# Altium integrated library Linear Technology Power Management Switching Regulator LT1074-LT8705.IntLib: 2252 symbols (part 52 of 148)
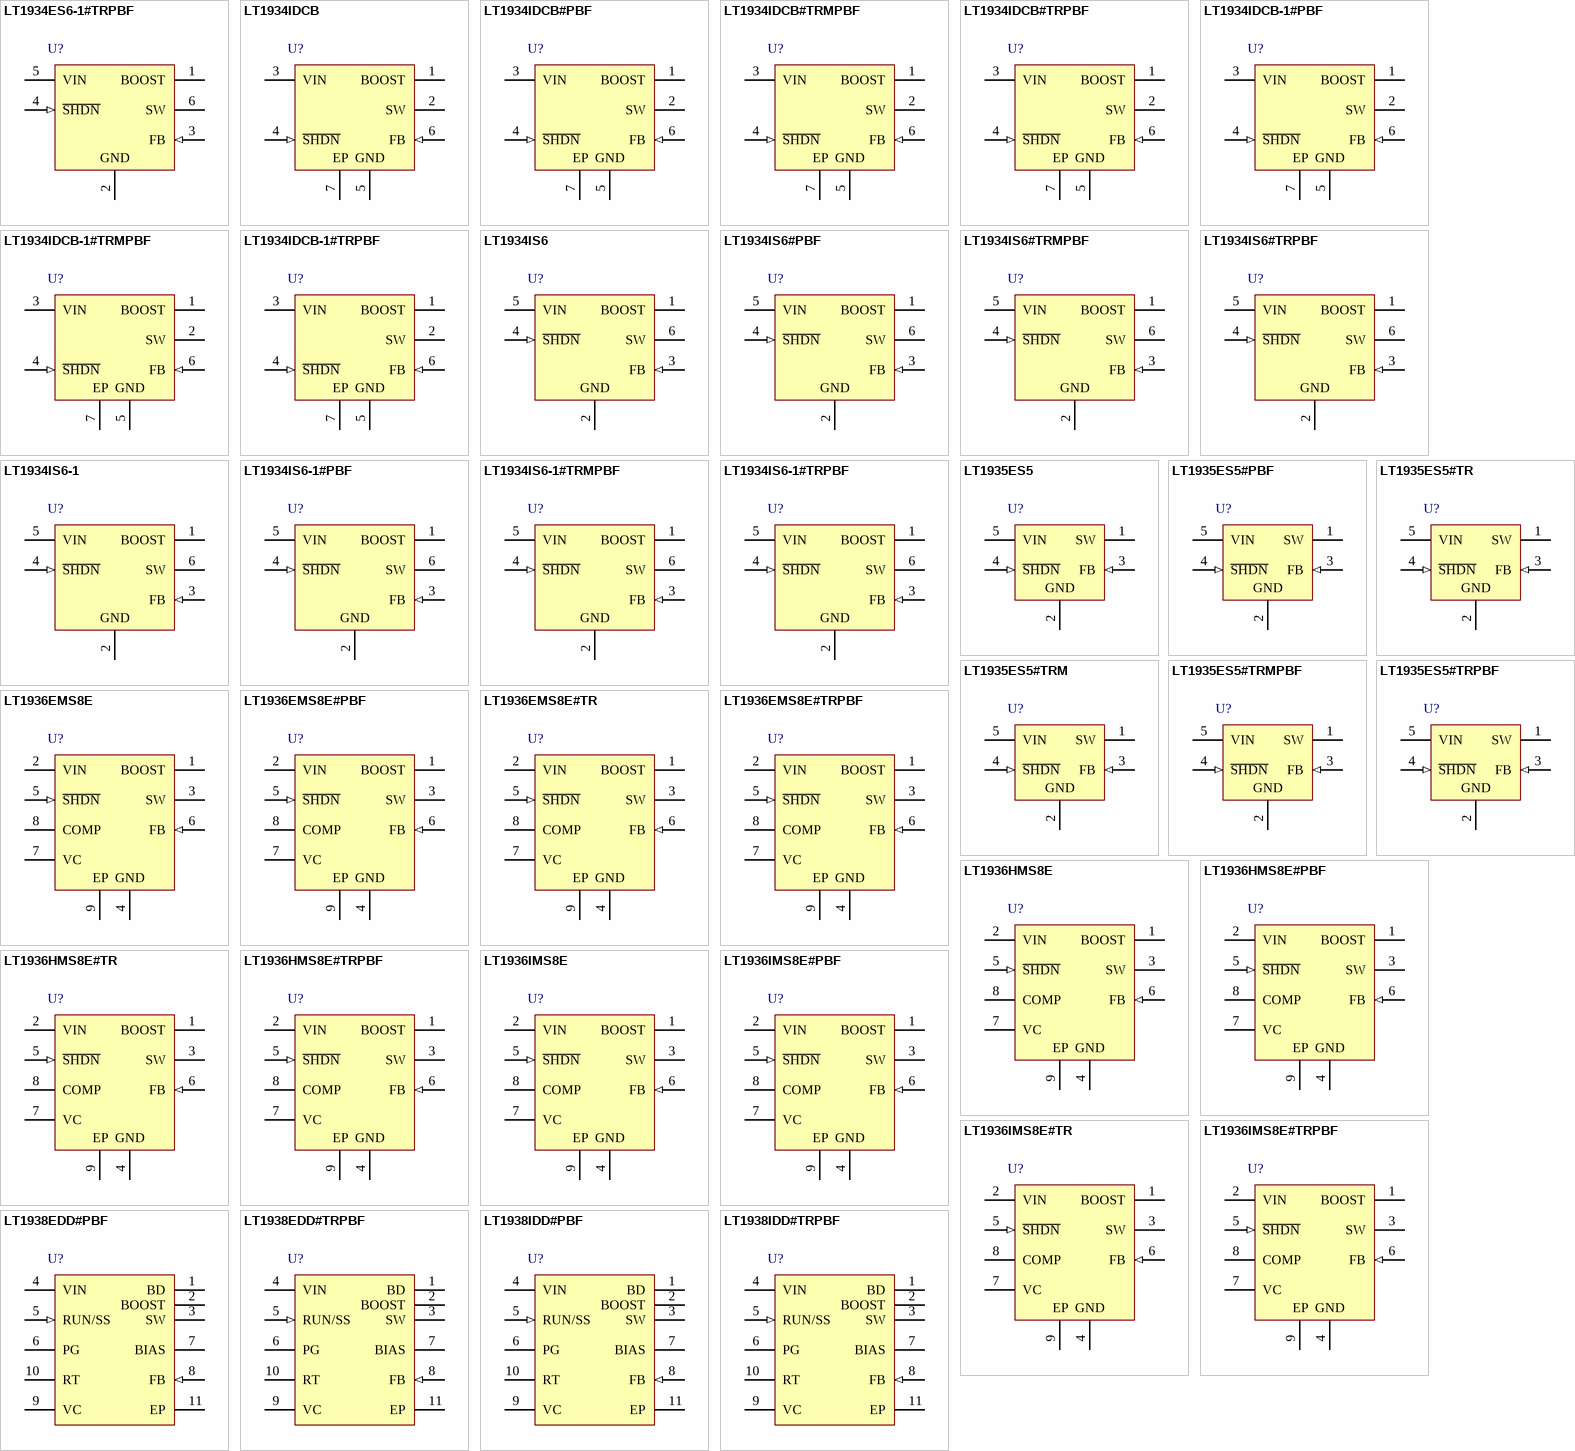
[diagram p122: symbols LT1934ES6-1#TRPBF to LT1938IDD#TRPBF]

## LT1936HMS8E#PBF
designator U?
1.4 A, 500 kHz Step-Down Switching Regulator, 8-pin SOP (MS8E-8), -40 to 150 degC, Pb-Free; Manufacturer: Linear Technology; PartNumber: LT1936HMS8E#PBF; Number of Outputs: 1; DatasheetVersion: Rev. D; PackageVersion: Rev. E; PackageReference: MS8E-8; PackageDescription: 8-Pin Plastic MSOP, Exposed Die Pad, Body 3 x 3 mm, Pitch 0.65 mm; Supplier 1: Digi-Key; Supplier Part Number 1: LT1936HMS8E#PBF-ND; RoHS: TRUE; Mounting Technology: Surface Mount; ComponentLink1Description: Manufacturer URL; ComponentLink1URL: http://www.linear.com/; ComponentLink2Description: Datasheet; ComponentLink2URL: http://cds.linear.com/docs/en/datasheet/1936fd.pdf; ComponentLink3Description: Package Specification; ComponentLink3URL: http://cds.linear.com/docs/en/datasheet/4070fc.pdf
footprint LT-MS8E-8-2060X1830TP_N (SOP, 8-Leads, Body 3.1x3.1mm, Pitch 0.65mm, Thermal Pad 2.162x1.932mm, IPC Medium Density)
footprint LT-MS8E-8-2060X1830TP_L (SOP, 8-Leads, Body 3.1x3.1mm, Pitch 0.65mm, Thermal Pad 2.162x1.932mm, IPC High Density)
footprint LT-MS8E-8-2060X1830TP_M (SOP, 8-Leads, Body 3.1x3.1mm, Pitch 0.65mm, Thermal Pad 2.162x1.932mm, IPC Low Density)
pins: 1 BOOST "The BOOST pin is used to provide a drive voltage, higher than the input voltage, to the internal bipolar NPN power switch.", 2 VIN (power) "The VIN pin supplies current to the LT1936’s internal regulator and to the internal power switch. This pin must be locally bypassed.", 3 SW (power) "The SW pin is the output of the internal power switch. Connect this pin to the inductor, catch diode and boost capacitor.", 4 GND (power) "Tie the GND pin to a local ground plane below the LT1936 and the circuit components. Return the feedback divider to this pin.", 5 ~{SHDN} (in) "The S\H\D\N\ pin is used to put the LT1936 in shutdown mode. Tie to ground to shut down the LT1936. Tie to 2.3V or more for normal operation. If the shutdown feature is not used, tie this pin to the VIN pin. S\H\D\N\ also (See Datasheet)", 6 FB (in) "The LT1936 regulates its feedback pin to 1.200V. Connect the feedback resistor divider tap to this pin. Set the output voltage according to VOUT = 1.200V (1 + R1/R2). A good value for R2 is 10k.", 7 VC "The VC pin is used to compensate the LT1936 control loop by tying an external RC network from this pin to ground. The COMP pin provides access to an internal RC network that can be used instead of the external components.", 8 COMP "To use the internal compensation network, tie the COMP pin to the VC pin. Otherwise, tie COMP to ground or leave it floating.", 9 EP (power) "The Exposed Pad must be soldered to the PCB and electrically connected to ground. Use a large ground plane and thermal vias to optimize thermal performance."

## LT1936HMS8E#TR
designator U?
1.4 A, 500 kHz Step-Down Switching Regulator, 8-pin SOP (MS8E-8), -40 to 150 degC, Tape and Reel; Manufacturer: Linear Technology; PartNumber: LT1936HMS8E#TR; Number of Outputs: 1; DatasheetVersion: Rev. D; PackageVersion: Rev. E; PackageReference: MS8E-8; PackageDescription: 8-Pin Plastic MSOP, Exposed Die Pad, Body 3 x 3 mm, Pitch 0.65 mm; Packing: Tape and Reel; RoHS: FALSE; Mounting Technology: Surface Mount; ComponentLink1Description: Manufacturer URL; ComponentLink1URL: http://www.linear.com/; ComponentLink2Description: Datasheet; ComponentLink2URL: http://cds.linear.com/docs/en/datasheet/1936fd.pdf; ComponentLink3Description: Package Specification; ComponentLink3URL: http://cds.linear.com/docs/en/datasheet/4070fc.pdf
footprint LT-MS8E-8-2060X1830TP_N (SOP, 8-Leads, Body 3.1x3.1mm, Pitch 0.65mm, Thermal Pad 2.162x1.932mm, IPC Medium Density)
footprint LT-MS8E-8-2060X1830TP_L (SOP, 8-Leads, Body 3.1x3.1mm, Pitch 0.65mm, Thermal Pad 2.162x1.932mm, IPC High Density)
footprint LT-MS8E-8-2060X1830TP_M (SOP, 8-Leads, Body 3.1x3.1mm, Pitch 0.65mm, Thermal Pad 2.162x1.932mm, IPC Low Density)
pins: 1 BOOST "The BOOST pin is used to provide a drive voltage, higher than the input voltage, to the internal bipolar NPN power switch.", 2 VIN (power) "The VIN pin supplies current to the LT1936’s internal regulator and to the internal power switch. This pin must be locally bypassed.", 3 SW (power) "The SW pin is the output of the internal power switch. Connect this pin to the inductor, catch diode and boost capacitor.", 4 GND (power) "Tie the GND pin to a local ground plane below the LT1936 and the circuit components. Return the feedback divider to this pin.", 5 ~{SHDN} (in) "The S\H\D\N\ pin is used to put the LT1936 in shutdown mode. Tie to ground to shut down the LT1936. Tie to 2.3V or more for normal operation. If the shutdown feature is not used, tie this pin to the VIN pin. S\H\D\N\ also (See Datasheet)", 6 FB (in) "The LT1936 regulates its feedback pin to 1.200V. Connect the feedback resistor divider tap to this pin. Set the output voltage according to VOUT = 1.200V (1 + R1/R2). A good value for R2 is 10k.", 7 VC "The VC pin is used to compensate the LT1936 control loop by tying an external RC network from this pin to ground. The COMP pin provides access to an internal RC network that can be used instead of the external components.", 8 COMP "To use the internal compensation network, tie the COMP pin to the VC pin. Otherwise, tie COMP to ground or leave it floating.", 9 EP (power) "The Exposed Pad must be soldered to the PCB and electrically connected to ground. Use a large ground plane and thermal vias to optimize thermal performance."

## LT1936HMS8E#TRPBF
designator U?
1.4 A, 500 kHz Step-Down Switching Regulator, 8-pin SOP (MS8E-8), -40 to 150 degC, Pb-Free, Tape and Reel; Manufacturer: Linear Technology; PartNumber: LT1936HMS8E#TRPBF; Number of Outputs: 1; DatasheetVersion: Rev. D; PackageVersion: Rev. E; PackageReference: MS8E-8; PackageDescription: 8-Pin Plastic MSOP, Exposed Die Pad, Body 3 x 3 mm, Pitch 0.65 mm; Supplier 1: Digi-Key; Supplier Part Number 1: LT1936HMS8E#TRPBF-ND; Packing: Tape and Reel; RoHS: TRUE; Mounting Technology: Surface Mount; ComponentLink1Description: Manufacturer URL; ComponentLink1URL: http://www.linear.com/; ComponentLink2Description: Datasheet; ComponentLink2URL: http://cds.linear.com/docs/en/datasheet/1936fd.pdf; ComponentLink3Description: Package Specification; ComponentLink3URL: http://cds.linear.com/docs/en/datasheet/4070fc.pdf
footprint LT-MS8E-8-2060X1830TP_N (SOP, 8-Leads, Body 3.1x3.1mm, Pitch 0.65mm, Thermal Pad 2.162x1.932mm, IPC Medium Density)
footprint LT-MS8E-8-2060X1830TP_L (SOP, 8-Leads, Body 3.1x3.1mm, Pitch 0.65mm, Thermal Pad 2.162x1.932mm, IPC High Density)
footprint LT-MS8E-8-2060X1830TP_M (SOP, 8-Leads, Body 3.1x3.1mm, Pitch 0.65mm, Thermal Pad 2.162x1.932mm, IPC Low Density)
pins: 1 BOOST "The BOOST pin is used to provide a drive voltage, higher than the input voltage, to the internal bipolar NPN power switch.", 2 VIN (power) "The VIN pin supplies current to the LT1936’s internal regulator and to the internal power switch. This pin must be locally bypassed.", 3 SW (power) "The SW pin is the output of the internal power switch. Connect this pin to the inductor, catch diode and boost capacitor.", 4 GND (power) "Tie the GND pin to a local ground plane below the LT1936 and the circuit components. Return the feedback divider to this pin.", 5 ~{SHDN} (in) "The S\H\D\N\ pin is used to put the LT1936 in shutdown mode. Tie to ground to shut down the LT1936. Tie to 2.3V or more for normal operation. If the shutdown feature is not used, tie this pin to the VIN pin. S\H\D\N\ also (See Datasheet)", 6 FB (in) "The LT1936 regulates its feedback pin to 1.200V. Connect the feedback resistor divider tap to this pin. Set the output voltage according to VOUT = 1.200V (1 + R1/R2). A good value for R2 is 10k.", 7 VC "The VC pin is used to compensate the LT1936 control loop by tying an external RC network from this pin to ground. The COMP pin provides access to an internal RC network that can be used instead of the external components.", 8 COMP "To use the internal compensation network, tie the COMP pin to the VC pin. Otherwise, tie COMP to ground or leave it floating.", 9 EP (power) "The Exposed Pad must be soldered to the PCB and electrically connected to ground. Use a large ground plane and thermal vias to optimize thermal performance."

## LT1936IMS8E
designator U?
1.4 A, 500 kHz Step-Down Switching Regulator, 8-pin SOP (MS8E-8), -40 to 125 degC; Manufacturer: Linear Technology; PartNumber: LT1936IMS8E; Number of Outputs: 1; DatasheetVersion: Rev. D; PackageVersion: Rev. E; PackageReference: MS8E-8; PackageDescription: 8-Pin Plastic MSOP, Exposed Die Pad, Body 3 x 3 mm, Pitch 0.65 mm; Supplier 1: Newark; Supplier Part Number 1: 57M7229; RoHS: FALSE; Mounting Technology: Surface Mount; ComponentLink1Description: Manufacturer URL; ComponentLink1URL: http://www.linear.com/; ComponentLink2Description: Datasheet; ComponentLink2URL: http://cds.linear.com/docs/en/datasheet/1936fd.pdf; ComponentLink3Description: Package Specification; ComponentLink3URL: http://cds.linear.com/docs/en/datasheet/4070fc.pdf
footprint LT-MS8E-8-2060X1830TP_N (SOP, 8-Leads, Body 3.1x3.1mm, Pitch 0.65mm, Thermal Pad 2.162x1.932mm, IPC Medium Density)
footprint LT-MS8E-8-2060X1830TP_L (SOP, 8-Leads, Body 3.1x3.1mm, Pitch 0.65mm, Thermal Pad 2.162x1.932mm, IPC High Density)
footprint LT-MS8E-8-2060X1830TP_M (SOP, 8-Leads, Body 3.1x3.1mm, Pitch 0.65mm, Thermal Pad 2.162x1.932mm, IPC Low Density)
pins: 1 BOOST "The BOOST pin is used to provide a drive voltage, higher than the input voltage, to the internal bipolar NPN power switch.", 2 VIN (power) "The VIN pin supplies current to the LT1936’s internal regulator and to the internal power switch. This pin must be locally bypassed.", 3 SW (power) "The SW pin is the output of the internal power switch. Connect this pin to the inductor, catch diode and boost capacitor.", 4 GND (power) "Tie the GND pin to a local ground plane below the LT1936 and the circuit components. Return the feedback divider to this pin.", 5 ~{SHDN} (in) "The S\H\D\N\ pin is used to put the LT1936 in shutdown mode. Tie to ground to shut down the LT1936. Tie to 2.3V or more for normal operation. If the shutdown feature is not used, tie this pin to the VIN pin. S\H\D\N\ also (See Datasheet)", 6 FB (in) "The LT1936 regulates its feedback pin to 1.200V. Connect the feedback resistor divider tap to this pin. Set the output voltage according to VOUT = 1.200V (1 + R1/R2). A good value for R2 is 10k.", 7 VC "The VC pin is used to compensate the LT1936 control loop by tying an external RC network from this pin to ground. The COMP pin provides access to an internal RC network that can be used instead of the external components.", 8 COMP "To use the internal compensation network, tie the COMP pin to the VC pin. Otherwise, tie COMP to ground or leave it floating.", 9 EP (power) "The Exposed Pad must be soldered to the PCB and electrically connected to ground. Use a large ground plane and thermal vias to optimize thermal performance."

## LT1936IMS8E#PBF
designator U?
1.4 A, 500 kHz Step-Down Switching Regulator, 8-pin SOP (MS8E-8), -40 to 125 degC, Pb-Free; Manufacturer: Linear Technology; PartNumber: LT1936IMS8E#PBF; Number of Outputs: 1; DatasheetVersion: Rev. D; PackageVersion: Rev. E; PackageReference: MS8E-8; PackageDescription: 8-Pin Plastic MSOP, Exposed Die Pad, Body 3 x 3 mm, Pitch 0.65 mm; Supplier 1: Digi-Key; Supplier Part Number 1: LT1936IMS8E#PBF-ND; Supplier 2: Farnell; Supplier Part Number 2: 2254833; Supplier 3: Newark; Supplier Part Number 3: 57M7230; RoHS: TRUE; Mounting Technology: Surface Mount; ComponentLink1Description: Manufacturer URL; ComponentLink1URL: http://www.linear.com/; ComponentLink2Description: Datasheet; ComponentLink2URL: http://cds.linear.com/docs/en/datasheet/1936fd.pdf; ComponentLink3Description: Package Specification; ComponentLink3URL: http://cds.linear.com/docs/en/datasheet/4070fc.pdf
footprint LT-MS8E-8-2060X1830TP_N (SOP, 8-Leads, Body 3.1x3.1mm, Pitch 0.65mm, Thermal Pad 2.162x1.932mm, IPC Medium Density)
footprint LT-MS8E-8-2060X1830TP_L (SOP, 8-Leads, Body 3.1x3.1mm, Pitch 0.65mm, Thermal Pad 2.162x1.932mm, IPC High Density)
footprint LT-MS8E-8-2060X1830TP_M (SOP, 8-Leads, Body 3.1x3.1mm, Pitch 0.65mm, Thermal Pad 2.162x1.932mm, IPC Low Density)
pins: 1 BOOST "The BOOST pin is used to provide a drive voltage, higher than the input voltage, to the internal bipolar NPN power switch.", 2 VIN (power) "The VIN pin supplies current to the LT1936’s internal regulator and to the internal power switch. This pin must be locally bypassed.", 3 SW (power) "The SW pin is the output of the internal power switch. Connect this pin to the inductor, catch diode and boost capacitor.", 4 GND (power) "Tie the GND pin to a local ground plane below the LT1936 and the circuit components. Return the feedback divider to this pin.", 5 ~{SHDN} (in) "The S\H\D\N\ pin is used to put the LT1936 in shutdown mode. Tie to ground to shut down the LT1936. Tie to 2.3V or more for normal operation. If the shutdown feature is not used, tie this pin to the VIN pin. S\H\D\N\ also (See Datasheet)", 6 FB (in) "The LT1936 regulates its feedback pin to 1.200V. Connect the feedback resistor divider tap to this pin. Set the output voltage according to VOUT = 1.200V (1 + R1/R2). A good value for R2 is 10k.", 7 VC "The VC pin is used to compensate the LT1936 control loop by tying an external RC network from this pin to ground. The COMP pin provides access to an internal RC network that can be used instead of the external components.", 8 COMP "To use the internal compensation network, tie the COMP pin to the VC pin. Otherwise, tie COMP to ground or leave it floating.", 9 EP (power) "The Exposed Pad must be soldered to the PCB and electrically connected to ground. Use a large ground plane and thermal vias to optimize thermal performance."

## LT1936IMS8E#TR
designator U?
1.4 A, 500 kHz Step-Down Switching Regulator, 8-pin SOP (MS8E-8), -40 to 125 degC, Tape and Reel; Manufacturer: Linear Technology; PartNumber: LT1936IMS8E#TR; Number of Outputs: 1; DatasheetVersion: Rev. D; PackageVersion: Rev. E; PackageReference: MS8E-8; PackageDescription: 8-Pin Plastic MSOP, Exposed Die Pad, Body 3 x 3 mm, Pitch 0.65 mm; Packing: Tape and Reel; RoHS: FALSE; Mounting Technology: Surface Mount; ComponentLink1Description: Manufacturer URL; ComponentLink1URL: http://www.linear.com/; ComponentLink2Description: Datasheet; ComponentLink2URL: http://cds.linear.com/docs/en/datasheet/1936fd.pdf; ComponentLink3Description: Package Specification; ComponentLink3URL: http://cds.linear.com/docs/en/datasheet/4070fc.pdf
footprint LT-MS8E-8-2060X1830TP_N (SOP, 8-Leads, Body 3.1x3.1mm, Pitch 0.65mm, Thermal Pad 2.162x1.932mm, IPC Medium Density)
footprint LT-MS8E-8-2060X1830TP_L (SOP, 8-Leads, Body 3.1x3.1mm, Pitch 0.65mm, Thermal Pad 2.162x1.932mm, IPC High Density)
footprint LT-MS8E-8-2060X1830TP_M (SOP, 8-Leads, Body 3.1x3.1mm, Pitch 0.65mm, Thermal Pad 2.162x1.932mm, IPC Low Density)
pins: 1 BOOST "The BOOST pin is used to provide a drive voltage, higher than the input voltage, to the internal bipolar NPN power switch.", 2 VIN (power) "The VIN pin supplies current to the LT1936’s internal regulator and to the internal power switch. This pin must be locally bypassed.", 3 SW (power) "The SW pin is the output of the internal power switch. Connect this pin to the inductor, catch diode and boost capacitor.", 4 GND (power) "Tie the GND pin to a local ground plane below the LT1936 and the circuit components. Return the feedback divider to this pin.", 5 ~{SHDN} (in) "The S\H\D\N\ pin is used to put the LT1936 in shutdown mode. Tie to ground to shut down the LT1936. Tie to 2.3V or more for normal operation. If the shutdown feature is not used, tie this pin to the VIN pin. S\H\D\N\ also (See Datasheet)", 6 FB (in) "The LT1936 regulates its feedback pin to 1.200V. Connect the feedback resistor divider tap to this pin. Set the output voltage according to VOUT = 1.200V (1 + R1/R2). A good value for R2 is 10k.", 7 VC "The VC pin is used to compensate the LT1936 control loop by tying an external RC network from this pin to ground. The COMP pin provides access to an internal RC network that can be used instead of the external components.", 8 COMP "To use the internal compensation network, tie the COMP pin to the VC pin. Otherwise, tie COMP to ground or leave it floating.", 9 EP (power) "The Exposed Pad must be soldered to the PCB and electrically connected to ground. Use a large ground plane and thermal vias to optimize thermal performance."

## LT1936IMS8E#TRPBF
designator U?
1.4 A, 500 kHz Step-Down Switching Regulator, 8-pin SOP (MS8E-8), -40 to 125 degC, Pb-Free, Tape and Reel; Manufacturer: Linear Technology; PartNumber: LT1936IMS8E#TRPBF; Number of Outputs: 1; DatasheetVersion: Rev. D; PackageVersion: Rev. E; PackageReference: MS8E-8; PackageDescription: 8-Pin Plastic MSOP, Exposed Die Pad, Body 3 x 3 mm, Pitch 0.65 mm; Supplier 1: Digi-Key; Supplier Part Number 1: LT1936IMS8E#TRPBF-ND; Supplier 2: Newark; Supplier Part Number 2: 57M7232; Packing: Tape and Reel; RoHS: TRUE; Mounting Technology: Surface Mount; ComponentLink1Description: Manufacturer URL; ComponentLink1URL: http://www.linear.com/; ComponentLink2Description: Datasheet; ComponentLink2URL: http://cds.linear.com/docs/en/datasheet/1936fd.pdf; ComponentLink3Description: Package Specification; ComponentLink3URL: http://cds.linear.com/docs/en/datasheet/4070fc.pdf
footprint LT-MS8E-8-2060X1830TP_N (SOP, 8-Leads, Body 3.1x3.1mm, Pitch 0.65mm, Thermal Pad 2.162x1.932mm, IPC Medium Density)
footprint LT-MS8E-8-2060X1830TP_L (SOP, 8-Leads, Body 3.1x3.1mm, Pitch 0.65mm, Thermal Pad 2.162x1.932mm, IPC High Density)
footprint LT-MS8E-8-2060X1830TP_M (SOP, 8-Leads, Body 3.1x3.1mm, Pitch 0.65mm, Thermal Pad 2.162x1.932mm, IPC Low Density)
pins: 1 BOOST "The BOOST pin is used to provide a drive voltage, higher than the input voltage, to the internal bipolar NPN power switch.", 2 VIN (power) "The VIN pin supplies current to the LT1936’s internal regulator and to the internal power switch. This pin must be locally bypassed.", 3 SW (power) "The SW pin is the output of the internal power switch. Connect this pin to the inductor, catch diode and boost capacitor.", 4 GND (power) "Tie the GND pin to a local ground plane below the LT1936 and the circuit components. Return the feedback divider to this pin.", 5 ~{SHDN} (in) "The S\H\D\N\ pin is used to put the LT1936 in shutdown mode. Tie to ground to shut down the LT1936. Tie to 2.3V or more for normal operation. If the shutdown feature is not used, tie this pin to the VIN pin. S\H\D\N\ also (See Datasheet)", 6 FB (in) "The LT1936 regulates its feedback pin to 1.200V. Connect the feedback resistor divider tap to this pin. Set the output voltage according to VOUT = 1.200V (1 + R1/R2). A good value for R2 is 10k.", 7 VC "The VC pin is used to compensate the LT1936 control loop by tying an external RC network from this pin to ground. The COMP pin provides access to an internal RC network that can be used instead of the external components.", 8 COMP "To use the internal compensation network, tie the COMP pin to the VC pin. Otherwise, tie COMP to ground or leave it floating.", 9 EP (power) "The Exposed Pad must be soldered to the PCB and electrically connected to ground. Use a large ground plane and thermal vias to optimize thermal performance."

## LT1938EDD#PBF
designator U?
2.2 A, 2.8 MHz Step-Down Switching Regulator, 10-pin SON (DD-10), -40 to 125 degC, Pb-Free; Manufacturer: Linear Technology; PartNumber: LT1938EDD#PBF; Number of Outputs: 1; DatasheetVersion: Rev. A; PackageVersion: Rev. C, 06/2010; PackageReference: DD-10; PackageDescription: 10-Pin Plastic DFN, Body 3 x 3 mm, Pitch 0.5 mm; Supplier 1: Digi-Key; Supplier Part Number 1: LT1938EDD#PBF-ND; Supplier 2: Farnell; Supplier Part Number 2: 2254834; Supplier 3: Newark; Supplier Part Number 3: 75M4667; RoHS: TRUE; Mounting Technology: Surface Mount; Code_JEDEC: MO-229; ComponentLink1Description: Manufacturer URL; ComponentLink1URL: http://www.linear.com/; ComponentLink2Description: Datasheet; ComponentLink2URL: http://cds.linear.com/docs/en/datasheet/1938fa.pdf; ComponentLink3Description: Package Specification; ComponentLink3URL: http://cds.linear.com/docs/en/packaging/DFN_10_05-08-1699.pdf
footprint LT-DD-10_V (SON, 10-Leads, Body 3x3mm, Pitch 0.5mm, Thermal Pad 2.38x1.65mm)
pins: 1 BD (power) "This pin connects to the anode of the boost Schottky diode.", 2 BOOST "This pin is used to provide a drive voltage, higher than the input voltage, to the internal bipolar NPN power switch.", 3 SW (power) "The SW pin is the output of the internal power switch. Connect this pin to the inductor, catch diode and boost capacitor.", 4 VIN (power) "The VIN pin supplies current to the LT1938’s internal regulator and to the internal power switch. This pin must be locally bypassed.", 5 RUN/SS (in) "The RUN/SS pin is used to put the LT1938 in shutdown mode. Tie to ground to shut down the LT1938. Tie to 2.3V or more for normal operation. If the shutdown feature is not used, tie this pin to the VIN pin. RUN/SS also (See Datasheet)", 6 PG (oc) "The PG pin is the open collector output of an internal comparator. PG remains low until the FB pin is within 10% of the final regulation voltage. PG output is valid when VIN is above 3.5V and RUN/SS is high.", 7 BIAS (power) "The BIAS pin supplies the current to the LT1938’s internal regulator. Tie this pin to the lowest available voltage source above 3V (typically VOUT). This architecture increases efficiency especially when the input voltag(See Datasheet)", 8 FB (in) "The LT1938 regulates the FB pin to 1.265V. Connect the feedback resistor divider tap to this pin.", 9 VC "The VC pin is the output of the internal error amplifier. The voltage on this pin controls the peak switch current. Tie an RC network from this pin to ground to compensate the control loop.", 10 RT "Oscillator Resistor Input. Connecting a resistor to ground from this pin sets the switching frequency.", 11 EP (power) "Ground. The Exposed Pad must be soldered to the PCB."

## LT1938EDD#TRPBF
designator U?
2.2 A, 2.8 MHz Step-Down Switching Regulator, 10-pin SON (DD-10), -40 to 125 degC, Pb-Free, Tape and Reel; Manufacturer: Linear Technology; PartNumber: LT1938EDD#TRPBF; Number of Outputs: 1; DatasheetVersion: Rev. A; PackageVersion: Rev. C, 06/2010; PackageReference: DD-10; PackageDescription: 10-Pin Plastic DFN, Body 3 x 3 mm, Pitch 0.5 mm; Supplier 1: Digi-Key; Supplier Part Number 1: LT1938EDD#TRPBF-ND; Supplier 2: Newark; Supplier Part Number 2: 75M4668; Packing: Tape and Reel; RoHS: TRUE; Mounting Technology: Surface Mount; Code_JEDEC: MO-229; ComponentLink1Description: Manufacturer URL; ComponentLink1URL: http://www.linear.com/; ComponentLink2Description: Datasheet; ComponentLink2URL: http://cds.linear.com/docs/en/datasheet/1938fa.pdf; ComponentLink3Description: Package Specification; ComponentLink3URL: http://cds.linear.com/docs/en/packaging/DFN_10_05-08-1699.pdf
footprint LT-DD-10_V (SON, 10-Leads, Body 3x3mm, Pitch 0.5mm, Thermal Pad 2.38x1.65mm)
pins: 1 BD (power) "This pin connects to the anode of the boost Schottky diode.", 2 BOOST "This pin is used to provide a drive voltage, higher than the input voltage, to the internal bipolar NPN power switch.", 3 SW (power) "The SW pin is the output of the internal power switch. Connect this pin to the inductor, catch diode and boost capacitor.", 4 VIN (power) "The VIN pin supplies current to the LT1938’s internal regulator and to the internal power switch. This pin must be locally bypassed.", 5 RUN/SS (in) "The RUN/SS pin is used to put the LT1938 in shutdown mode. Tie to ground to shut down the LT1938. Tie to 2.3V or more for normal operation. If the shutdown feature is not used, tie this pin to the VIN pin. RUN/SS also (See Datasheet)", 6 PG (oc) "The PG pin is the open collector output of an internal comparator. PG remains low until the FB pin is within 10% of the final regulation voltage. PG output is valid when VIN is above 3.5V and RUN/SS is high.", 7 BIAS (power) "The BIAS pin supplies the current to the LT1938’s internal regulator. Tie this pin to the lowest available voltage source above 3V (typically VOUT). This architecture increases efficiency especially when the input voltag(See Datasheet)", 8 FB (in) "The LT1938 regulates the FB pin to 1.265V. Connect the feedback resistor divider tap to this pin.", 9 VC "The VC pin is the output of the internal error amplifier. The voltage on this pin controls the peak switch current. Tie an RC network from this pin to ground to compensate the control loop.", 10 RT "Oscillator Resistor Input. Connecting a resistor to ground from this pin sets the switching frequency.", 11 EP (power) "Ground. The Exposed Pad must be soldered to the PCB."

## LT1938IDD#PBF
designator U?
2.2 A, 2.8 MHz Step-Down Switching Regulator, 10-pin SON (DD-10), -40 to 125 degC, Pb-Free; Manufacturer: Linear Technology; PartNumber: LT1938IDD#PBF; Number of Outputs: 1; DatasheetVersion: Rev. A; PackageVersion: Rev. C, 06/2010; PackageReference: DD-10; PackageDescription: 10-Pin Plastic DFN, Body 3 x 3 mm, Pitch 0.5 mm; Supplier 1: Digi-Key; Supplier Part Number 1: LT1938IDD#PBF-ND; RoHS: TRUE; Mounting Technology: Surface Mount; Code_JEDEC: MO-229; ComponentLink1Description: Manufacturer URL; ComponentLink1URL: http://www.linear.com/; ComponentLink2Description: Datasheet; ComponentLink2URL: http://cds.linear.com/docs/en/datasheet/1938fa.pdf; ComponentLink3Description: Package Specification; ComponentLink3URL: http://cds.linear.com/docs/en/packaging/DFN_10_05-08-1699.pdf
footprint LT-DD-10_V (SON, 10-Leads, Body 3x3mm, Pitch 0.5mm, Thermal Pad 2.38x1.65mm)
pins: 1 BD (power) "This pin connects to the anode of the boost Schottky diode.", 2 BOOST "This pin is used to provide a drive voltage, higher than the input voltage, to the internal bipolar NPN power switch.", 3 SW (power) "The SW pin is the output of the internal power switch. Connect this pin to the inductor, catch diode and boost capacitor.", 4 VIN (power) "The VIN pin supplies current to the LT1938’s internal regulator and to the internal power switch. This pin must be locally bypassed.", 5 RUN/SS (in) "The RUN/SS pin is used to put the LT1938 in shutdown mode. Tie to ground to shut down the LT1938. Tie to 2.3V or more for normal operation. If the shutdown feature is not used, tie this pin to the VIN pin. RUN/SS also (See Datasheet)", 6 PG (oc) "The PG pin is the open collector output of an internal comparator. PG remains low until the FB pin is within 10% of the final regulation voltage. PG output is valid when VIN is above 3.5V and RUN/SS is high.", 7 BIAS (power) "The BIAS pin supplies the current to the LT1938’s internal regulator. Tie this pin to the lowest available voltage source above 3V (typically VOUT). This architecture increases efficiency especially when the input voltag(See Datasheet)", 8 FB (in) "The LT1938 regulates the FB pin to 1.265V. Connect the feedback resistor divider tap to this pin.", 9 VC "The VC pin is the output of the internal error amplifier. The voltage on this pin controls the peak switch current. Tie an RC network from this pin to ground to compensate the control loop.", 10 RT "Oscillator Resistor Input. Connecting a resistor to ground from this pin sets the switching frequency.", 11 EP (power) "Ground. The Exposed Pad must be soldered to the PCB."

## LT1938IDD#TRPBF
designator U?
2.2 A, 2.8 MHz Step-Down Switching Regulator, 10-pin SON (DD-10), -40 to 125 degC, Pb-Free, Tape and Reel; Manufacturer: Linear Technology; PartNumber: LT1938IDD#TRPBF; Number of Outputs: 1; DatasheetVersion: Rev. A; PackageVersion: Rev. C, 06/2010; PackageReference: DD-10; PackageDescription: 10-Pin Plastic DFN, Body 3 x 3 mm, Pitch 0.5 mm; Supplier 1: Digi-Key; Supplier Part Number 1: LT1938IDD#TRPBF-ND; Supplier 2: Newark; Supplier Part Number 2: 75M4670; Packing: Tape and Reel; RoHS: TRUE; Mounting Technology: Surface Mount; Code_JEDEC: MO-229; ComponentLink1Description: Manufacturer URL; ComponentLink1URL: http://www.linear.com/; ComponentLink2Description: Datasheet; ComponentLink2URL: http://cds.linear.com/docs/en/datasheet/1938fa.pdf; ComponentLink3Description: Package Specification; ComponentLink3URL: http://cds.linear.com/docs/en/packaging/DFN_10_05-08-1699.pdf
footprint LT-DD-10_V (SON, 10-Leads, Body 3x3mm, Pitch 0.5mm, Thermal Pad 2.38x1.65mm)
pins: 1 BD (power) "This pin connects to the anode of the boost Schottky diode.", 2 BOOST "This pin is used to provide a drive voltage, higher than the input voltage, to the internal bipolar NPN power switch.", 3 SW (power) "The SW pin is the output of the internal power switch. Connect this pin to the inductor, catch diode and boost capacitor.", 4 VIN (power) "The VIN pin supplies current to the LT1938’s internal regulator and to the internal power switch. This pin must be locally bypassed.", 5 RUN/SS (in) "The RUN/SS pin is used to put the LT1938 in shutdown mode. Tie to ground to shut down the LT1938. Tie to 2.3V or more for normal operation. If the shutdown feature is not used, tie this pin to the VIN pin. RUN/SS also (See Datasheet)", 6 PG (oc) "The PG pin is the open collector output of an internal comparator. PG remains low until the FB pin is within 10% of the final regulation voltage. PG output is valid when VIN is above 3.5V and RUN/SS is high.", 7 BIAS (power) "The BIAS pin supplies the current to the LT1938’s internal regulator. Tie this pin to the lowest available voltage source above 3V (typically VOUT). This architecture increases efficiency especially when the input voltag(See Datasheet)", 8 FB (in) "The LT1938 regulates the FB pin to 1.265V. Connect the feedback resistor divider tap to this pin.", 9 VC "The VC pin is the output of the internal error amplifier. The voltage on this pin controls the peak switch current. Tie an RC network from this pin to ground to compensate the control loop.", 10 RT "Oscillator Resistor Input. Connecting a resistor to ground from this pin sets the switching frequency.", 11 EP (power) "Ground. The Exposed Pad must be soldered to the PCB."

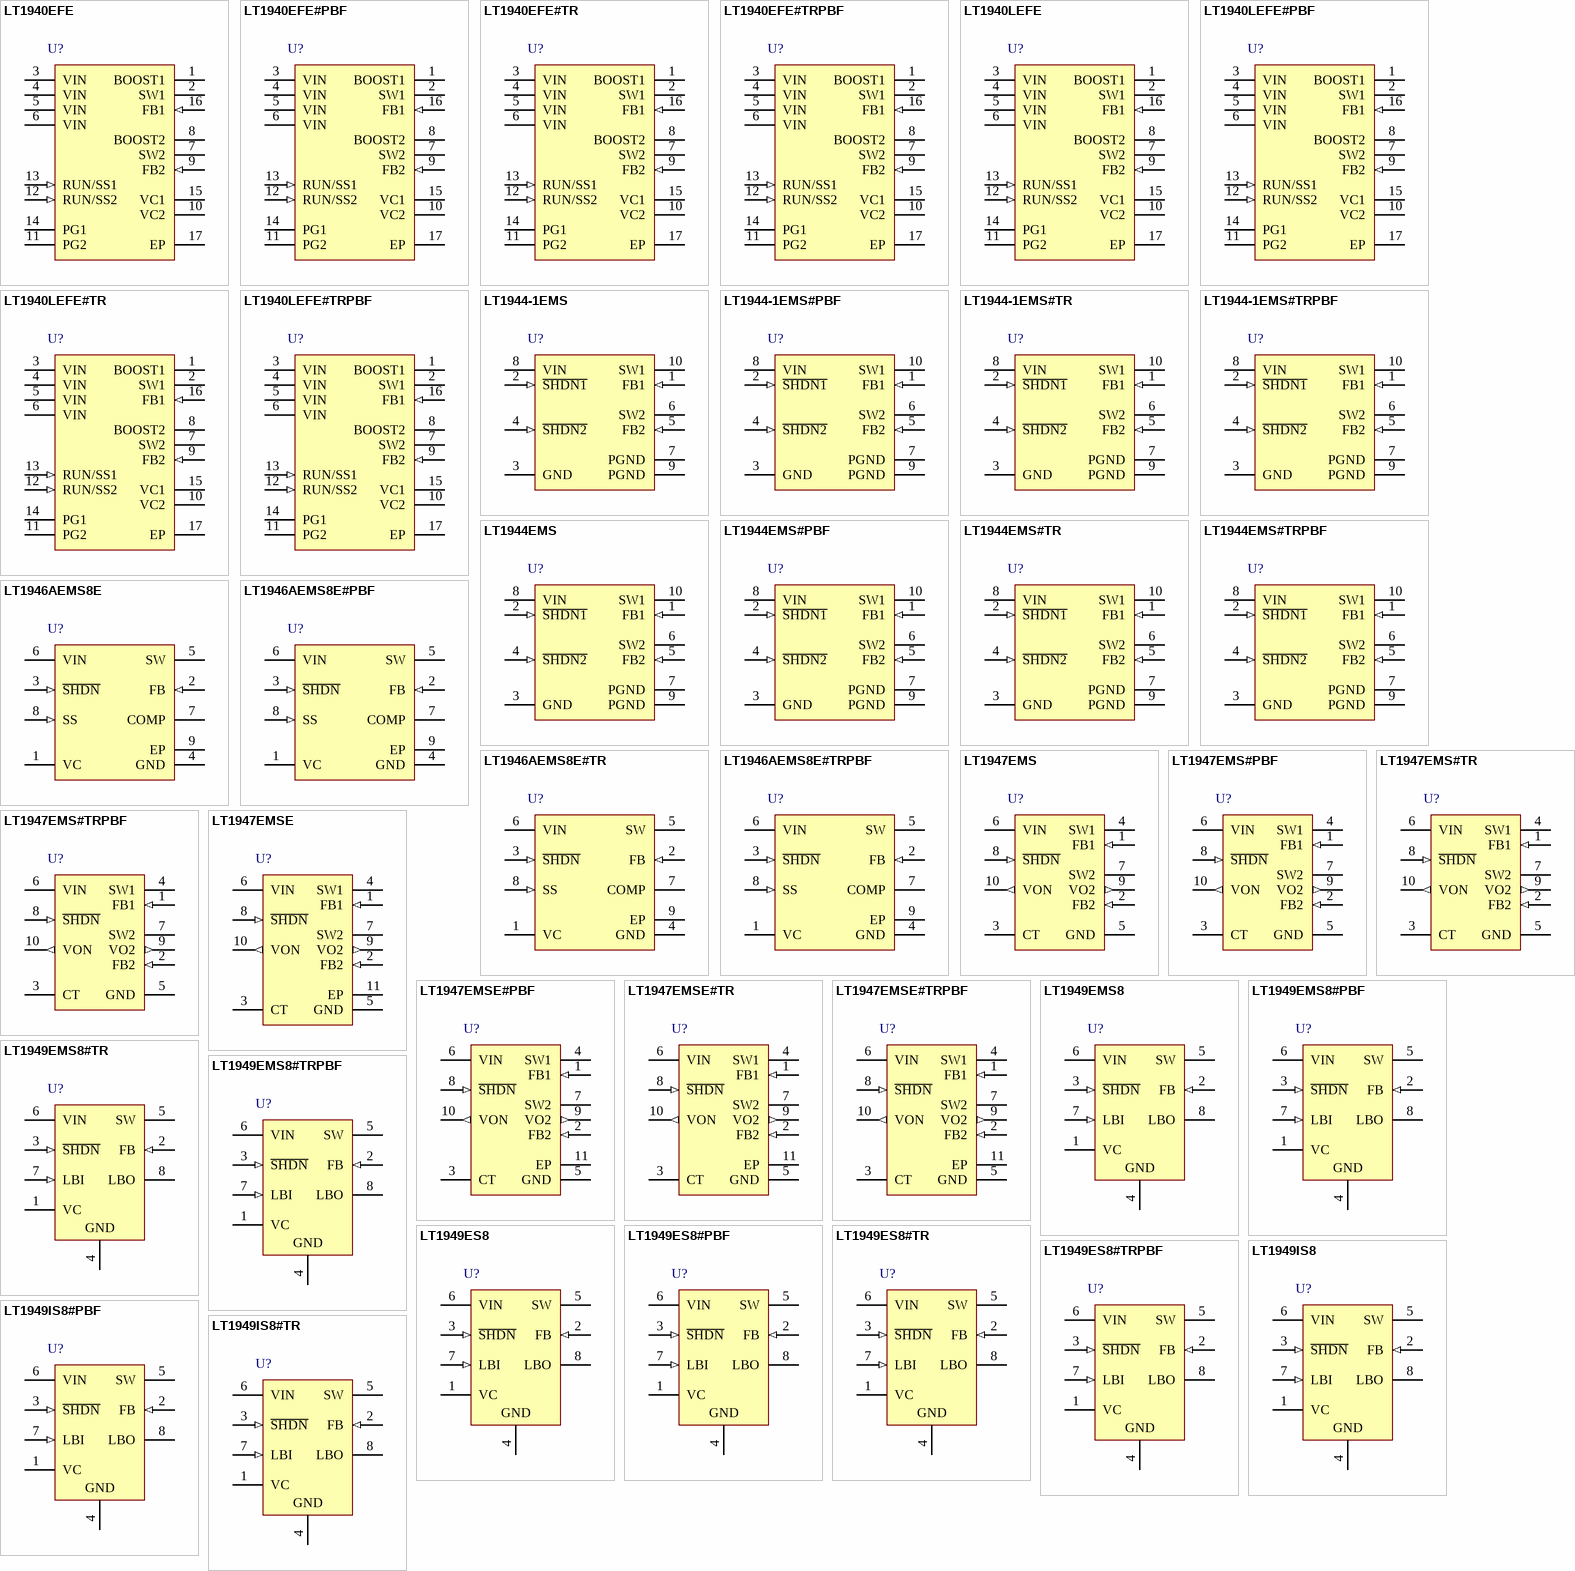
[diagram p27: symbols LT1940EFE to LT1949IS8#TR]

## LT1940EFE
designator U?
Dual Monolithic 1.4 A, 1.1 MHz Step-Down Switching Regulator, 16-pin SOP (FE-16-EPV-BA), -40 to 85 degC; Manufacturer: Linear Technology; PartNumber: LT1940EFE; Number of Outputs: 2; DatasheetVersion: Rev. A; PackageVersion: Rev. I, 05/2011; PackageReference: FE-16; PackageDescription: 16-Pin Plastic TSSOP, Body 5 x 4.4 mm, Pitch 0.65 mm; Supplier 1: Digi-Key; Supplier Part Number 1: LT1940EFE-ND; Supplier 2: Newark; Supplier Part Number 2: 57M7241; RoHS: FALSE; Mounting Technology: Surface Mount; ComponentLink1Description: Manufacturer URL; ComponentLink1URL: http://www.linear.com/; ComponentLink2Description: Datasheet; ComponentLink2URL: http://cds.linear.com/docs/en/datasheet/1940fa.pdf; ComponentLink3Description: Package Specification; ComponentLink3URL: http://cds.linear.com/docs/en/packaging/05081663_J_FE16(BA).pdf
footprint LT-FE-16-EPV-BA_N (SOP, 16-Leads, Body 5x4.4mm, Pitch 0.65mm, Thermal Pad 2.74x2.74mm, IPC Medium Density)
footprint LT-FE-16-EPV-BA_L (SOP, 16-Leads, Body 5x4.4mm, Pitch 0.65mm, Thermal Pad 2.74x2.74mm, IPC High Density)
footprint LT-FE-16-EPV-BA_M (SOP, 16-Leads, Body 5x4.4mm, Pitch 0.65mm, Thermal Pad 2.74x2.74mm, IPC Low Density)
pins: 1 BOOST1 "The BOOST pins are used to provide drive voltages, higher than the input voltage, to the internal bipolar NPN power switches.Tie through a diode from VOUT or from VIN.", 2 SW1 (power) "The SW pins are the outputs of the internal power switches. Connect these pins to the inductors, catch diodes and boost capacitors.", 3 VIN (power) "The VIN pins supply current to the LT1940’s internal regulator and to the internal power switches. These pins must be tied to the same source, and must be locally bypassed.", 4 VIN (power) "The VIN pins supply current to the LT1940’s internal regulator and to the internal power switches. These pins must be tied to the same source, and must be locally bypassed.", 5 VIN (power) "The VIN pins supply current to the LT1940’s internal regulator and to the internal power switches. These pins must be tied to the same source, and must be locally bypassed.", 6 VIN (power) "The VIN pins supply current to the LT1940’s internal regulator and to the internal power switches. These pins must be tied to the same source, and must be locally bypassed.", 7 SW2 (power) "The SW pins are the outputs of the internal power switches. Connect these pins to the inductors, catch diodes and boost capacitors.", 8 BOOST2 "The BOOST pins are used to provide drive voltages, higher than the input voltage, to the internal bipolar NPN power switches.Tie through a diode from VOUT or from VIN.", 9 FB2 (in) "The LT1940 regulates each feedback pin to 1.25V. Connect the feedback resistor divider taps to these pins.", 10 VC2 "The VC pins are the outputs of the internal error amps. The voltages on these pins control the peak switch currents. These pins are normally used to compensate the control loops, but can also be used to override the loops. (See Datasheet)", 11 PG2 (oc) "The Power Good pins are the open collector outputs of an internal comparator. PG remains low until the FB pin is within 10% of the final regulation voltage. As well as indicating output regulation, the PG pins can be used to (See Datasheet)", 12 RUN/SS2 (in) "The RUN/SS pins are use to shut down the individual switching regulators and the internal bias circuits. They also provide a soft-start function. To shut down either regulator, pull the RUN/SS pin to ground with an open (See Datasheet)", 13 RUN/SS1 (in) "The RUN/SS pins are use to shut down the individual switching regulators and the internal bias circuits. They also provide a soft-start function. To shut down either regulator, pull the RUN/SS pin to ground with an open (See Datasheet)", 14 PG1 (oc) "The Power Good pins are the open collector outputs of an internal comparator. PG remains low until the FB pin is within 10% of the final regulation voltage. As well as indicating output regulation, the PG pins can be used to (See Datasheet)", 15 VC1 "The VC pins are the outputs of the internal error amps. The voltages on these pins control the peak switch currents. These pins are normally used to compensate the control loops, but can also be used to override the loops. (See Datasheet)", 16 FB1 (in) "The LT1940 regulates each feedback pin to 1.25V. Connect the feedback resistor divider taps to these pins.", 17 EP (power) "The Exposed Pad of the package provides both electrical contact to ground and good thermal contact to the printed circuit board. The Exposed Pad must be soldered to the circuit board for proper operation."

## LT1940EFE#PBF
designator U?
Dual Monolithic 1.4 A, 1.1 MHz Step-Down Switching Regulator, 16-pin SOP (FE-16-EPV-BA), -40 to 85 degC, Pb-Free; Manufacturer: Linear Technology; PartNumber: LT1940EFE#PBF; Number of Outputs: 2; DatasheetVersion: Rev. A; PackageVersion: Rev. I, 05/2011; PackageReference: FE-16; PackageDescription: 16-Pin Plastic TSSOP, Body 5 x 4.4 mm, Pitch 0.65 mm; Supplier 1: Digi-Key; Supplier Part Number 1: LT1940EFE#PBF-ND; Supplier 2: Farnell; Supplier Part Number 2: 1273792; Supplier 3: Newark; Supplier Part Number 3: 57M7242; RoHS: TRUE; Mounting Technology: Surface Mount; ComponentLink1Description: Manufacturer URL; ComponentLink1URL: http://www.linear.com/; ComponentLink2Description: Datasheet; ComponentLink2URL: http://cds.linear.com/docs/en/datasheet/1940fa.pdf; ComponentLink3Description: Package Specification; ComponentLink3URL: http://cds.linear.com/docs/en/packaging/05081663_J_FE16(BA).pdf
footprint LT-FE-16-EPV-BA_N (SOP, 16-Leads, Body 5x4.4mm, Pitch 0.65mm, Thermal Pad 2.74x2.74mm, IPC Medium Density)
footprint LT-FE-16-EPV-BA_L (SOP, 16-Leads, Body 5x4.4mm, Pitch 0.65mm, Thermal Pad 2.74x2.74mm, IPC High Density)
footprint LT-FE-16-EPV-BA_M (SOP, 16-Leads, Body 5x4.4mm, Pitch 0.65mm, Thermal Pad 2.74x2.74mm, IPC Low Density)
pins: 1 BOOST1 "The BOOST pins are used to provide drive voltages, higher than the input voltage, to the internal bipolar NPN power switches.Tie through a diode from VOUT or from VIN.", 2 SW1 (power) "The SW pins are the outputs of the internal power switches. Connect these pins to the inductors, catch diodes and boost capacitors.", 3 VIN (power) "The VIN pins supply current to the LT1940’s internal regulator and to the internal power switches. These pins must be tied to the same source, and must be locally bypassed.", 4 VIN (power) "The VIN pins supply current to the LT1940’s internal regulator and to the internal power switches. These pins must be tied to the same source, and must be locally bypassed.", 5 VIN (power) "The VIN pins supply current to the LT1940’s internal regulator and to the internal power switches. These pins must be tied to the same source, and must be locally bypassed.", 6 VIN (power) "The VIN pins supply current to the LT1940’s internal regulator and to the internal power switches. These pins must be tied to the same source, and must be locally bypassed.", 7 SW2 (power) "The SW pins are the outputs of the internal power switches. Connect these pins to the inductors, catch diodes and boost capacitors.", 8 BOOST2 "The BOOST pins are used to provide drive voltages, higher than the input voltage, to the internal bipolar NPN power switches.Tie through a diode from VOUT or from VIN.", 9 FB2 (in) "The LT1940 regulates each feedback pin to 1.25V. Connect the feedback resistor divider taps to these pins.", 10 VC2 "The VC pins are the outputs of the internal error amps. The voltages on these pins control the peak switch currents. These pins are normally used to compensate the control loops, but can also be used to override the loops. (See Datasheet)", 11 PG2 (oc) "The Power Good pins are the open collector outputs of an internal comparator. PG remains low until the FB pin is within 10% of the final regulation voltage. As well as indicating output regulation, the PG pins can be used to (See Datasheet)", 12 RUN/SS2 (in) "The RUN/SS pins are use to shut down the individual switching regulators and the internal bias circuits. They also provide a soft-start function. To shut down either regulator, pull the RUN/SS pin to ground with an open (See Datasheet)", 13 RUN/SS1 (in) "The RUN/SS pins are use to shut down the individual switching regulators and the internal bias circuits. They also provide a soft-start function. To shut down either regulator, pull the RUN/SS pin to ground with an open (See Datasheet)", 14 PG1 (oc) "The Power Good pins are the open collector outputs of an internal comparator. PG remains low until the FB pin is within 10% of the final regulation voltage. As well as indicating output regulation, the PG pins can be used to (See Datasheet)", 15 VC1 "The VC pins are the outputs of the internal error amps. The voltages on these pins control the peak switch currents. These pins are normally used to compensate the control loops, but can also be used to override the loops. (See Datasheet)", 16 FB1 (in) "The LT1940 regulates each feedback pin to 1.25V. Connect the feedback resistor divider taps to these pins.", 17 EP (power) "The Exposed Pad of the package provides both electrical contact to ground and good thermal contact to the printed circuit board. The Exposed Pad must be soldered to the circuit board for proper operation."

## LT1940EFE#TR
designator U?
Dual Monolithic 1.4 A, 1.1 MHz Step-Down Switching Regulator, 16-pin SOP (FE-16-EPV-BA), -40 to 85 degC, Tape and Reel; Manufacturer: Linear Technology; PartNumber: LT1940EFE#TR; Number of Outputs: 2; DatasheetVersion: Rev. A; PackageVersion: Rev. I, 05/2011; PackageReference: FE-16; PackageDescription: 16-Pin Plastic TSSOP, Body 5 x 4.4 mm, Pitch 0.65 mm; Supplier 1: Digi-Key; Supplier Part Number 1: LT1940EFE#TR-ND; Supplier 2: Newark; Supplier Part Number 2: 57M7243; Packing: Tape and Reel; RoHS: FALSE; Mounting Technology: Surface Mount; ComponentLink1Description: Manufacturer URL; ComponentLink1URL: http://www.linear.com/; ComponentLink2Description: Datasheet; ComponentLink2URL: http://cds.linear.com/docs/en/datasheet/1940fa.pdf; ComponentLink3Description: Package Specification; ComponentLink3URL: http://cds.linear.com/docs/en/packaging/05081663_J_FE16(BA).pdf
footprint LT-FE-16-EPV-BA_N (SOP, 16-Leads, Body 5x4.4mm, Pitch 0.65mm, Thermal Pad 2.74x2.74mm, IPC Medium Density)
footprint LT-FE-16-EPV-BA_L (SOP, 16-Leads, Body 5x4.4mm, Pitch 0.65mm, Thermal Pad 2.74x2.74mm, IPC High Density)
footprint LT-FE-16-EPV-BA_M (SOP, 16-Leads, Body 5x4.4mm, Pitch 0.65mm, Thermal Pad 2.74x2.74mm, IPC Low Density)
pins: 1 BOOST1 "The BOOST pins are used to provide drive voltages, higher than the input voltage, to the internal bipolar NPN power switches.Tie through a diode from VOUT or from VIN.", 2 SW1 (power) "The SW pins are the outputs of the internal power switches. Connect these pins to the inductors, catch diodes and boost capacitors.", 3 VIN (power) "The VIN pins supply current to the LT1940’s internal regulator and to the internal power switches. These pins must be tied to the same source, and must be locally bypassed.", 4 VIN (power) "The VIN pins supply current to the LT1940’s internal regulator and to the internal power switches. These pins must be tied to the same source, and must be locally bypassed.", 5 VIN (power) "The VIN pins supply current to the LT1940’s internal regulator and to the internal power switches. These pins must be tied to the same source, and must be locally bypassed.", 6 VIN (power) "The VIN pins supply current to the LT1940’s internal regulator and to the internal power switches. These pins must be tied to the same source, and must be locally bypassed.", 7 SW2 (power) "The SW pins are the outputs of the internal power switches. Connect these pins to the inductors, catch diodes and boost capacitors.", 8 BOOST2 "The BOOST pins are used to provide drive voltages, higher than the input voltage, to the internal bipolar NPN power switches.Tie through a diode from VOUT or from VIN.", 9 FB2 (in) "The LT1940 regulates each feedback pin to 1.25V. Connect the feedback resistor divider taps to these pins.", 10 VC2 "The VC pins are the outputs of the internal error amps. The voltages on these pins control the peak switch currents. These pins are normally used to compensate the control loops, but can also be used to override the loops. (See Datasheet)", 11 PG2 (oc) "The Power Good pins are the open collector outputs of an internal comparator. PG remains low until the FB pin is within 10% of the final regulation voltage. As well as indicating output regulation, the PG pins can be used to (See Datasheet)", 12 RUN/SS2 (in) "The RUN/SS pins are use to shut down the individual switching regulators and the internal bias circuits. They also provide a soft-start function. To shut down either regulator, pull the RUN/SS pin to ground with an open (See Datasheet)", 13 RUN/SS1 (in) "The RUN/SS pins are use to shut down the individual switching regulators and the internal bias circuits. They also provide a soft-start function. To shut down either regulator, pull the RUN/SS pin to ground with an open (See Datasheet)", 14 PG1 (oc) "The Power Good pins are the open collector outputs of an internal comparator. PG remains low until the FB pin is within 10% of the final regulation voltage. As well as indicating output regulation, the PG pins can be used to (See Datasheet)", 15 VC1 "The VC pins are the outputs of the internal error amps. The voltages on these pins control the peak switch currents. These pins are normally used to compensate the control loops, but can also be used to override the loops. (See Datasheet)", 16 FB1 (in) "The LT1940 regulates each feedback pin to 1.25V. Connect the feedback resistor divider taps to these pins.", 17 EP (power) "The Exposed Pad of the package provides both electrical contact to ground and good thermal contact to the printed circuit board. The Exposed Pad must be soldered to the circuit board for proper operation."

## LT1940EFE#TRPBF
designator U?
Dual Monolithic 1.4 A, 1.1 MHz Step-Down Switching Regulator, 16-pin SOP (FE-16-EPV-BA), -40 to 85 degC, Pb-Free, Tape and Reel; Manufacturer: Linear Technology; PartNumber: LT1940EFE#TRPBF; Number of Outputs: 2; DatasheetVersion: Rev. A; PackageVersion: Rev. I, 05/2011; PackageReference: FE-16; PackageDescription: 16-Pin Plastic TSSOP, Body 5 x 4.4 mm, Pitch 0.65 mm; Supplier 1: Digi-Key; Supplier Part Number 1: LT1940EFE#TRPBF-ND; Supplier 2: Newark; Supplier Part Number 2: 57M7244; Packing: Tape and Reel; RoHS: TRUE; Mounting Technology: Surface Mount; ComponentLink1Description: Manufacturer URL; ComponentLink1URL: http://www.linear.com/; ComponentLink2Description: Datasheet; ComponentLink2URL: http://cds.linear.com/docs/en/datasheet/1940fa.pdf; ComponentLink3Description: Package Specification; ComponentLink3URL: http://cds.linear.com/docs/en/packaging/05081663_J_FE16(BA).pdf
footprint LT-FE-16-EPV-BA_N (SOP, 16-Leads, Body 5x4.4mm, Pitch 0.65mm, Thermal Pad 2.74x2.74mm, IPC Medium Density)
footprint LT-FE-16-EPV-BA_L (SOP, 16-Leads, Body 5x4.4mm, Pitch 0.65mm, Thermal Pad 2.74x2.74mm, IPC High Density)
footprint LT-FE-16-EPV-BA_M (SOP, 16-Leads, Body 5x4.4mm, Pitch 0.65mm, Thermal Pad 2.74x2.74mm, IPC Low Density)
pins: 1 BOOST1 "The BOOST pins are used to provide drive voltages, higher than the input voltage, to the internal bipolar NPN power switches.Tie through a diode from VOUT or from VIN.", 2 SW1 (power) "The SW pins are the outputs of the internal power switches. Connect these pins to the inductors, catch diodes and boost capacitors.", 3 VIN (power) "The VIN pins supply current to the LT1940’s internal regulator and to the internal power switches. These pins must be tied to the same source, and must be locally bypassed.", 4 VIN (power) "The VIN pins supply current to the LT1940’s internal regulator and to the internal power switches. These pins must be tied to the same source, and must be locally bypassed.", 5 VIN (power) "The VIN pins supply current to the LT1940’s internal regulator and to the internal power switches. These pins must be tied to the same source, and must be locally bypassed.", 6 VIN (power) "The VIN pins supply current to the LT1940’s internal regulator and to the internal power switches. These pins must be tied to the same source, and must be locally bypassed.", 7 SW2 (power) "The SW pins are the outputs of the internal power switches. Connect these pins to the inductors, catch diodes and boost capacitors.", 8 BOOST2 "The BOOST pins are used to provide drive voltages, higher than the input voltage, to the internal bipolar NPN power switches.Tie through a diode from VOUT or from VIN.", 9 FB2 (in) "The LT1940 regulates each feedback pin to 1.25V. Connect the feedback resistor divider taps to these pins.", 10 VC2 "The VC pins are the outputs of the internal error amps. The voltages on these pins control the peak switch currents. These pins are normally used to compensate the control loops, but can also be used to override the loops. (See Datasheet)", 11 PG2 (oc) "The Power Good pins are the open collector outputs of an internal comparator. PG remains low until the FB pin is within 10% of the final regulation voltage. As well as indicating output regulation, the PG pins can be used to (See Datasheet)", 12 RUN/SS2 (in) "The RUN/SS pins are use to shut down the individual switching regulators and the internal bias circuits. They also provide a soft-start function. To shut down either regulator, pull the RUN/SS pin to ground with an open (See Datasheet)", 13 RUN/SS1 (in) "The RUN/SS pins are use to shut down the individual switching regulators and the internal bias circuits. They also provide a soft-start function. To shut down either regulator, pull the RUN/SS pin to ground with an open (See Datasheet)", 14 PG1 (oc) "The Power Good pins are the open collector outputs of an internal comparator. PG remains low until the FB pin is within 10% of the final regulation voltage. As well as indicating output regulation, the PG pins can be used to (See Datasheet)", 15 VC1 "The VC pins are the outputs of the internal error amps. The voltages on these pins control the peak switch currents. These pins are normally used to compensate the control loops, but can also be used to override the loops. (See Datasheet)", 16 FB1 (in) "The LT1940 regulates each feedback pin to 1.25V. Connect the feedback resistor divider taps to these pins.", 17 EP (power) "The Exposed Pad of the package provides both electrical contact to ground and good thermal contact to the printed circuit board. The Exposed Pad must be soldered to the circuit board for proper operation."